# Altium schematic symbol library TRANSISTOR_BJT.SchLib: 2 symbols
Pins are listed as number, name and electrical type; pins without a type are passive.

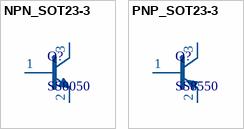
[diagram p0: symbols NPN_SOT23-3 to PNP_SOT23-3]

## NPN_SOT23-3
designator Q?, comment SS8050
NPN Transistor SMD SOT23-3
footprint SOT23-3
pins: 1, 2, 3

## PNP_SOT23-3
designator Q?, comment SS8550
PNP Transistor SMD SOT23-3
footprint SOT23-3
pins: 1, 2, 3